# EAGLE library part _68PIN_Z8FXX22 (library Zilog-Z8-Encore-v1_2)
Z8 Encore, PLCC-68 Package
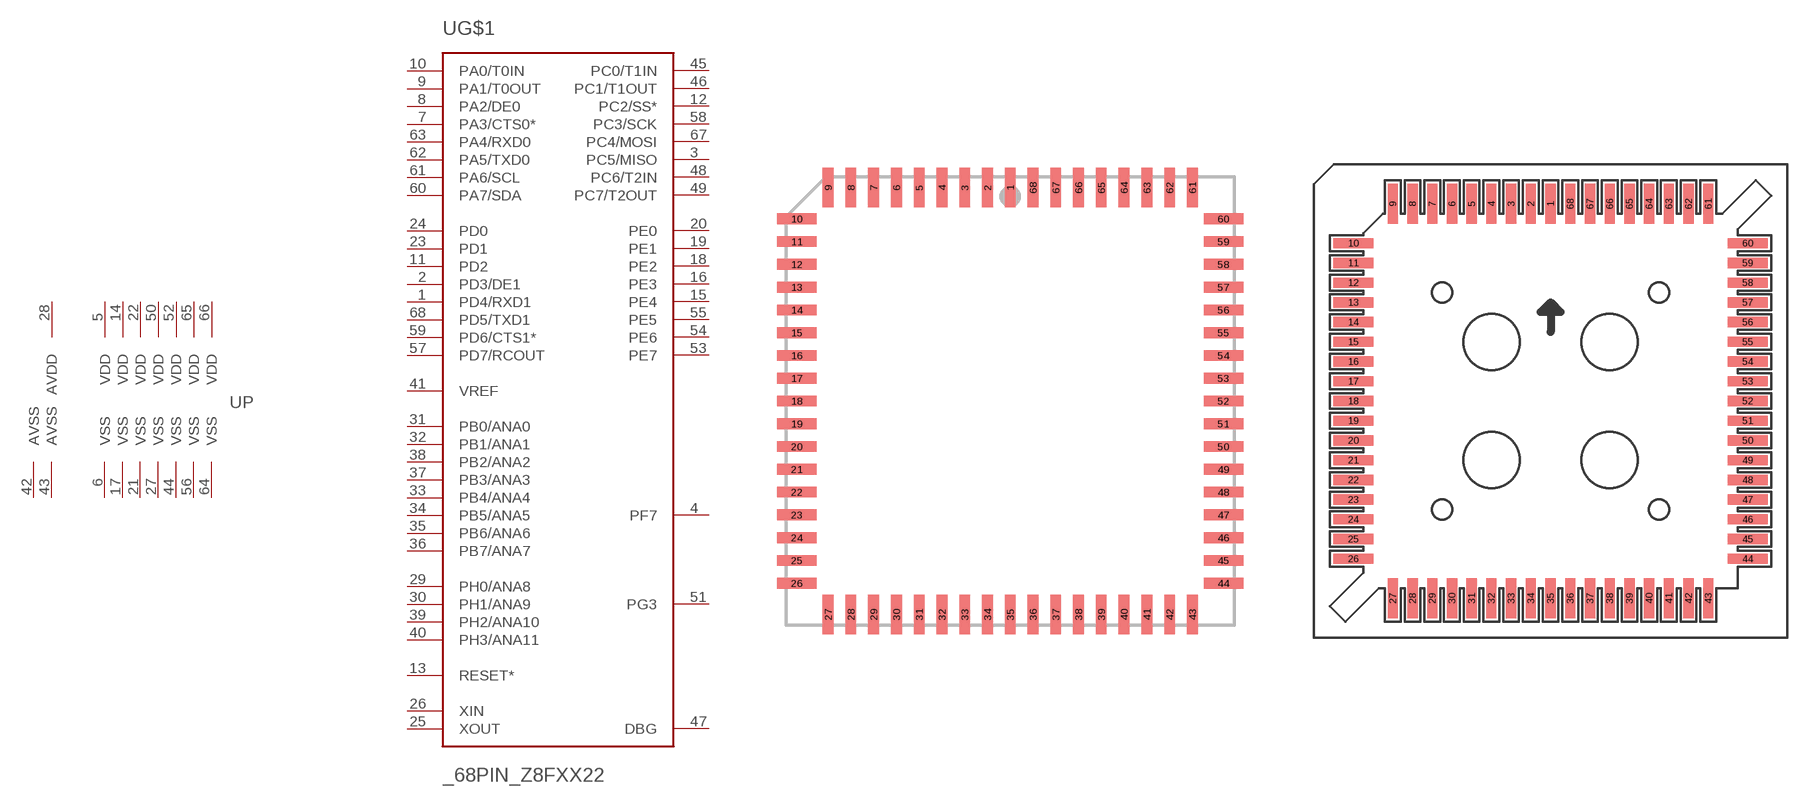
[diagram p1: symbol with the pads of PLCC68S; footprints PLCC68S, PLCCSM68]

Designator prefix U; gates G$1=Z8FXX22 P=PWR_68-PIN

## _68PIN_Z8FXX22VS  [PLCC68S]
1  G$1:PD4/RXD1
2  G$1:PD3/DE1
3  G$1:PC5/MISO
4  G$1:PF7
5  P:VDD  pwr
6  P:VSS  pwr
7  G$1:PA3/CTS0*
8  G$1:PA2/DE0
9  G$1:PA1/T0OUT
10  G$1:PA0/T0IN
11  G$1:PD2
12  G$1:PC2/SS*
13  G$1:RESET*  in
14  P:VDD  pwr
15  G$1:PE4
16  G$1:PE3
17  P:VSS  pwr
18  G$1:PE2
19  G$1:PE1
20  G$1:PE0
21  P:VSS  pwr
22  P:VDD  pwr
23  G$1:PD1
24  G$1:PD0
25  G$1:XOUT  out
26  G$1:XIN  in
27  P:VSS  pwr
28  P:AVDD  pwr
29  G$1:PH0/ANA8
30  G$1:PH1/ANA9
31  G$1:PB0/ANA0
32  G$1:PB1/ANA1
33  G$1:PB4/ANA4
34  G$1:PB5/ANA5
35  G$1:PB6/ANA6
36  G$1:PB7/ANA7
37  G$1:PB3/ANA3
38  G$1:PB2/ANA2
39  G$1:PH2/ANA10
40  G$1:PH3/ANA11
41  G$1:VREF  pas
42  P:AVSS  pwr
43  P:AVSS  pwr
44  P:VSS  pwr
45  G$1:PC0/T1IN
46  G$1:PC1/T1OUT
47  G$1:DBG
48  G$1:PC6/T2IN
49  G$1:PC7/T2OUT
50  P:VDD  pwr
51  G$1:PG3
52  P:VDD  pwr
53  G$1:PE7
54  G$1:PE6
55  G$1:PE5
56  P:VSS  pwr
57  G$1:PD7/RCOUT
58  G$1:PC3/SCK
59  G$1:PD6/CTS1*
60  G$1:PA7/SDA
61  G$1:PA6/SCL
62  G$1:PA5/TXD0
63  G$1:PA4/RXD0
64  P:VSS  pwr
65  P:VDD  pwr
66  P:VDD  pwr
67  G$1:PC4/MOSI
68  G$1:PD5/TXD1

## _68PIN_Z8FXX22VS-SMS  [PLCCSM68]
Pads as for PLCC68S

## _68PIN_Z8FXX22VS-THS  [PLCC-S68]
Pads as for PLCC68S

## Footprint PLCC68S (pad centres in mm)
PLCC-68
smd 0.6 x 2.2: 1 0,11.9; 2 -1.27,11.9; 3 -2.54,11.9; 4 -3.81,11.9; 5 -5.08,11.9; 6 -6.35,11.9; 7 -7.62,11.9; 8 -8.89,11.9; 9 -10.16,11.9; 27 -10.16,-11.9; 28 -8.89,-11.9; 29 -7.62,-11.9; 30 -6.35,-11.9; 31 -5.08,-11.9; 32 -3.81,-11.9; 33 -2.54,-11.9; 34 -1.27,-11.9; 35 0,-11.9; 36 1.27,-11.9; 37 2.54,-11.9; 38 3.81,-11.9; 39 5.08,-11.9; 40 6.35,-11.9; 41 7.62,-11.9; 42 8.89,-11.9; 43 10.16,-11.9; 61 10.16,11.9; 62 8.89,11.9; 63 7.62,11.9; 64 6.35,11.9; 65 5.08,11.9; 66 3.81,11.9; 67 2.54,11.9; 68 1.27,11.9
smd 2.2 x 0.6: 10 -11.9,10.16; 11 -11.9,8.89; 12 -11.9,7.62; 13 -11.9,6.35; 14 -11.9,5.08; 15 -11.9,3.81; 16 -11.9,2.54; 17 -11.9,1.27; 18 -11.9,0; 19 -11.9,-1.27; 20 -11.9,-2.54; 21 -11.9,-3.81; 22 -11.9,-5.08; 23 -11.9,-6.35; 24 -11.9,-7.62; 25 -11.9,-8.89; 26 -11.9,-10.16; 44 11.9,-10.16; 45 11.9,-8.89; 46 11.9,-7.62; 47 11.9,-6.35; 48 11.9,-5.08; 49 11.9,-3.81; 50 11.9,-2.54; 51 11.9,-1.27; 52 11.9,0; 53 11.9,1.27; 54 11.9,2.54; 55 11.9,3.81; 56 11.9,5.08; 57 11.9,6.35; 58 11.9,7.62; 59 11.9,8.89; 60 11.9,10.16

## Footprint PLCCSM68 (pad centres in mm)
PLCC-68 Surface-Mount Socket
smd 0.66 x 2.591: 1 0,12.7; 2 -1.27,12.7; 3 -2.54,12.7; 4 -3.81,12.7; 5 -5.08,12.7; 6 -6.35,12.7; 7 -7.62,12.7; 8 -8.89,12.7; 9 -10.16,12.7; 27 -10.16,-12.7; 28 -8.89,-12.7; 29 -7.62,-12.7; 30 -6.35,-12.7; 31 -5.08,-12.7; 32 -3.81,-12.7; 33 -2.54,-12.7; 34 -1.27,-12.7; 35 0,-12.7; 36 1.27,-12.7; 37 2.54,-12.7; 38 3.81,-12.7; 39 5.08,-12.7; 40 6.35,-12.7; 41 7.62,-12.7; 42 8.89,-12.7; 43 10.16,-12.7; 61 10.16,12.7; 62 8.89,12.7; 63 7.62,12.7; 64 6.35,12.7; 65 5.08,12.7; 66 3.81,12.7; 67 2.54,12.7; 68 1.27,12.7
smd 2.591 x 0.66: 10 -12.7,10.16; 11 -12.7,8.89; 12 -12.7,7.62; 13 -12.7,6.35; 14 -12.7,5.08; 15 -12.7,3.81; 16 -12.7,2.54; 17 -12.7,1.27; 18 -12.7,0; 19 -12.7,-1.27; 20 -12.7,-2.54; 21 -12.7,-3.81; 22 -12.7,-5.08; 23 -12.7,-6.35; 24 -12.7,-7.62; 25 -12.7,-8.89; 26 -12.7,-10.16; 44 12.7,-10.16; 45 12.7,-8.89; 46 12.7,-7.62; 47 12.7,-6.35; 48 12.7,-5.08; 49 12.7,-3.81; 50 12.7,-2.54; 51 12.7,-1.27; 52 12.7,0; 53 12.7,1.27; 54 12.7,2.54; 55 12.7,3.81; 56 12.7,5.08; 57 12.7,6.35; 58 12.7,7.62; 59 12.7,8.89; 60 12.7,10.16

## Footprint PLCC-S68 (pad centres in mm)
PLCC-68 Thru-Hole Socket
drill 0.813 octagon: 1 0,12.7; 2 0,10.16; 3 -2.54,12.7; 4 -2.54,10.16; 5 -5.08,12.7; 6 -5.08,10.16; 7 -7.62,12.7; 8 -7.62,10.16; 9 -10.16,12.7; 10 -12.7,10.16; 11 -10.16,10.16; 12 -12.7,7.62; 13 -10.16,7.62; 14 -12.7,5.08; 15 -10.16,5.08; 16 -12.7,2.54; 17 -10.16,2.54; 18 -12.7,0; 19 -10.16,0; 20 -12.7,-2.54; 21 -10.16,-2.54; 22 -12.7,-5.08; 23 -10.16,-5.08; 24 -12.7,-7.62; 25 -10.16,-7.62; 26 -12.7,-10.16; 27 -10.16,-12.7; 28 -10.16,-10.16; 29 -7.62,-12.7; 30 -7.62,-10.16; 31 -5.08,-12.7; 32 -5.08,-10.16; 33 -2.54,-12.7; 34 -2.54,-10.16; 35 0,-12.7; 36 0,-10.16; 37 2.54,-12.7; 38 2.54,-10.16; 39 5.08,-12.7; 40 5.08,-10.16; 41 7.62,-12.7; 42 7.62,-10.16; 43 10.16,-12.7; 44 12.7,-10.16; 45 10.16,-10.16; 46 12.7,-7.62; 47 10.16,-7.62; 48 12.7,-5.08; 49 10.16,-5.08; 50 12.7,-2.54; 51 10.16,-2.54; 52 12.7,0; 53 10.16,0; 54 12.7,2.54; 55 10.16,2.54; 56 12.7,5.08; 57 10.16,5.08; 58 12.7,7.62; 59 10.16,7.62; 60 12.7,10.16; 61 10.16,12.7; 62 10.16,10.16; 63 7.62,12.7; 64 7.62,10.16; 65 5.08,12.7; 66 5.08,10.16; 67 2.54,12.7; 68 2.54,10.16